# EAGLE library part WE-TVS-HS_SC70-6L_82400274 (library Eagle_WE-TVS (rev26a))
WE-TVS TVS Diode – High Speed Series Characteristics Low clamping voltage Sturdy design Very low capacitance Flow Thru Design for a simple layout Rail to Rail protection Epoxy flame resistant UL94-V0 RoHS, REACH and free of halogens Applications Very fast data lines USB 2.0 Ethernet PoE VGA Sim Cards Keypads HS = High Speed <https://www.we-online.com/components/media/o14883v209%20Family_WE-TVS_HIGHSPEED.jpg> Details see: www.we-online.com/en/components/products/WE-TVS-HS <www.we-online.com/catalog/WE-CAIR/?utm_source=eagle_model&utm_medium=description_link&utm_campaign=eisos_eagle> Updated by Ella Wu 2019-07-12 2019 (C) Wurth Elektronik
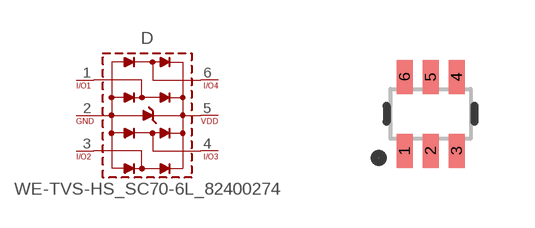
[diagram p11: symbol with the pads of WE-TVS_SC70-6L; footprint WE-TVS_SC70-6L]

Designator prefix D

## WE-TVS-HS_SC70-6L_82400274 (CCH-TYP: 1.2pF; CHANNELS: 4+1; DATASHEET-URL: https://www.we-online.com/redexpert/spec/82400274?ae; HEIGHT: 1mm; IPEAK: 6A; LENGTH: 2mm; MOUNT: SMT; PART-NUMBER: 82400274; POLARITY: Unidirectional; SIZE: SC70-6L; VALUE: 82400274; VBR-MIN: 6V; VCH-CLAMP-ESD: 12.5V; VCH-MAX: 5V; VESD-CONTACT: 12kV; WIDTH: 2.2mm)  [WE-TVS_SC70-6L]
1  1  pas
2  GND  pas
3  3  pas
4  4  pas
5  VDD  pas
6  6  pas

## Footprint WE-TVS_SC70-6L (pad centres in mm)
WE-TVS TVS Diode Size: SC70-6L L X W X H = 2mm X2.1mm X 1mm
smd 0.4 x 0.85: 1 -0.65,-0.925; 2 0,-0.925; 3 0.65,-0.925; 4 0.65,0.925; 5 0,0.925; 6 -0.65,0.925